# EAGLE library part LP38690SD-ADJ_NOPB (library LP38690SD-ADJ_NOPB)
1A LDO Regulator Adj.,LP38690SD-ADJ Texas Instruments LP38690SD-ADJ/NOPB, LDO Voltage Regulator, Adjustable 1A, 1.25 9 V 2.5%, 6-Pin LLP Source: Datasheet <http://uk.rs-online.com/web/p/products/6515542>
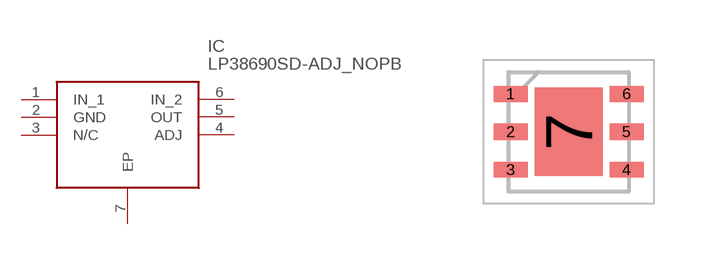
[diagram p0: symbol with the pads of SON95P300X300X80-7N; footprint SON95P300X300X80-7N]

Designator prefix IC

## LP38690SD-ADJ_NOPB (Arrow_Part_Number: LP38690SD-ADJ/NOPB; Arrow_Price/Stock: https://www.arrow.com/en/products/lp38690sd-adjnopb/texas-instruments; Description: 1A LDO Regulator Adj.,LP38690SD-ADJ Texas Instruments LP38690SD-ADJ/NOPB, LDO Voltage Regulator, Adjustable 1A, 1.25 9 V 2.5%, 6-Pin LLP; Height: 0.8mm; Manufacturer_Name: Texas Instruments; Manufacturer_Part_Number: LP38690SD-ADJ/NOPB; RS_Part_Number: 6515542P; RS_Price/Stock: http://uk.rs-online.com/web/p/products/6515542P)  [SON95P300X300X80-7N]
1  IN_1
2  GND
3  N/C  nc
4  ADJ
5  OUT
6  IN_2
7  EP

## Footprint SON95P300X300X80-7N (pad centres in mm)
NGG0006A
smd 0.85 x 0.4: 1 -1.45,0.95; 2 -1.45,0; 3 -1.45,-0.95; 4 1.45,-0.95; 5 1.45,0; 6 1.45,0.95
smd 1.7 x 2.2: 7 0,0